# Altium schematic symbol library tjs_perimeter.SchLib: 8 symbols
Pins are listed as number, name and electrical type; pins without a type are passive.

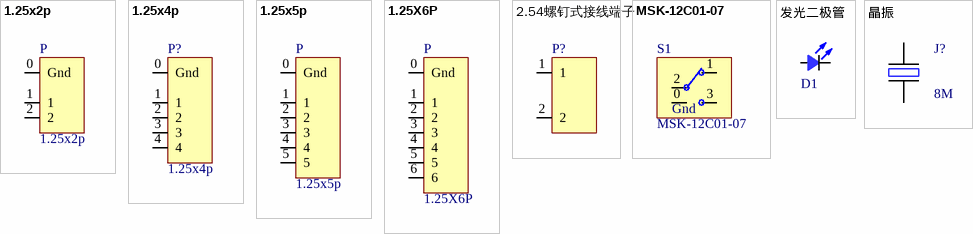
[diagram p0: symbols 1.25x2p to 晶振]

## 1.25x2p
designator P
footprint 1.25x2p
pins: 0 Gnd, 1, 2

## 1.25x4p
designator P?
footprint 1.25x4p
pins: 0 Gnd, 1, 2, 3, 4

## 1.25x5p
designator P
footprint 1.25x5p
pins: 0 Gnd, 1, 2, 3, 4, 5

## 1.25X6P
designator P
footprint 1.25X6P
pins: 0 Gnd, 1, 2, 3, 4, 5, 6

## 2.54螺钉式接线端子
designator P?  (value not drawn)
footprint DG308
pins: 1, 2

## MSK-12C01-07
designator S1
贴片侧开关 5V/0.5A
footprint MSK-12C01-07
pins: 0 Gnd, 1, 2, 3

## 发光二极管
designator D1  (value not drawn)
footprint LC-0402-LED
footprint LED 3mm直插
footprint LED 3MM 卧装
pins: A, K

## 晶振
designator J?, comment 8M
无源晶振
footprint XTAL G3225晶振
pins: 1, 2